# Altium schematic symbol library MCP2518FDT-x_SL.SchLib: 1 symbol
Pins are listed as number, name and electrical type; pins without a type are passive.

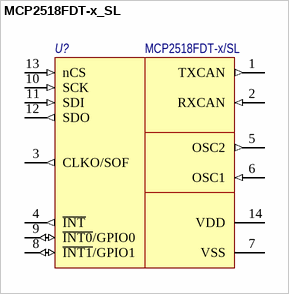
[diagram p0: symbol MCP2518FDT-x_SL]

## MCP2518FDT-x_SL
designator U?, comment MCP2518FDT-x/SL
CAN FD Controller with SPI Interface; Потрбление, Вт: 0.1; Назначение: CAN FD Controller with SPI Interface; ComponentLink1Description: DataSheet; ComponentLink1URL: https://ww1.microchip.com/downloads/en/DeviceDoc/External-CAN-FD-Controller-with-SPI-Interface-DS20006027B.pdf; Наименование: MCP2518FDT-x/SL
footprint SOIC-14
pins: 1 TXCAN (out), 2 RXCAN (in), 3 CLKO/SOF (out), 4 ~{INT} (out), 5 OSC2 (out), 6 OSC1 (in), 7 VSS (power), 8 ~{INT1}/GPIO1 (io), 9 ~{INT0}/GPIO0 (io), 10 SCK (in), 11 SDI (in), 12 SDO (out), 13 nCS (in), 14 VDD (power)